# EAGLE library part ADG774 (library aoba)
ADG774 quad 2:1 mux/demux
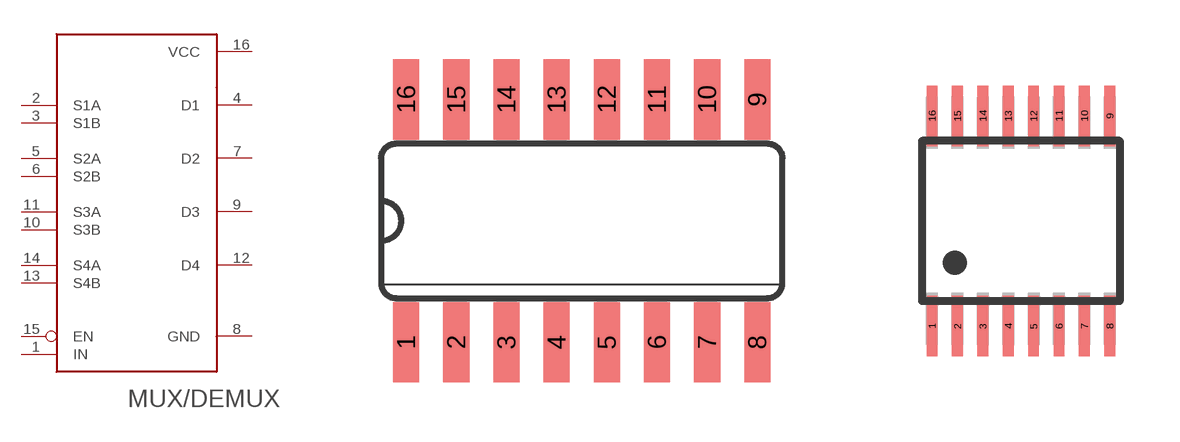
[diagram p2: symbol with the pads of SO16; footprints SO16, QSOP16]

Designator prefix MUX/DEMUX

## ADG774  [SO16]
1  IN
2  S1A
3  S1B
4  D1
5  S2A
6  S2B
7  D2
8  GND  pwr
9  D3
10  S3B
11  S3A
12  D4
13  S4B
14  S4A
15  EN
16  VCC  pwr

## ADG774QSOP  [QSOP16]
Pads as for SO16

## Footprint SO16 (pad centres in mm)
Small Outline package 150 mil
smd 0.66 x 2.032: 1 -4.445,-3.073; 2 -3.175,-3.073; 3 -1.905,-3.073; 4 -0.635,-3.073; 5 0.635,-3.073; 6 1.905,-3.073; 7 3.175,-3.073; 8 4.445,-3.073; 9 4.445,3.073; 10 3.175,3.073; 11 1.905,3.073; 12 0.635,3.073; 13 -0.635,3.073; 14 -1.905,3.073; 15 -3.175,3.073; 16 -4.445,3.073

## Footprint QSOP16 (pad centres in mm)
Small Outline Package
smd 0.27 x 1.52: 1 -2.223,-2.627; 2 -1.587,-2.627; 3 -0.953,-2.627; 4 -0.318,-2.627; 5 0.318,-2.627; 6 0.953,-2.627; 7 1.587,-2.627; 8 2.223,-2.627; 9 2.223,2.627; 10 1.587,2.627; 11 0.953,2.627; 12 0.318,2.627; 13 -0.318,2.627; 14 -0.953,2.627; 15 -1.587,2.627; 16 -2.223,2.627